# EAGLE library part 48074-9101 (library SamacSys_Parts)
Molex Female Cat5, Cat5e RJ45 Connector, Surface Mount, Shielded Source: Datasheet <https://www.molex.com/pdm_docs/sd/480749101_sd.pdf>
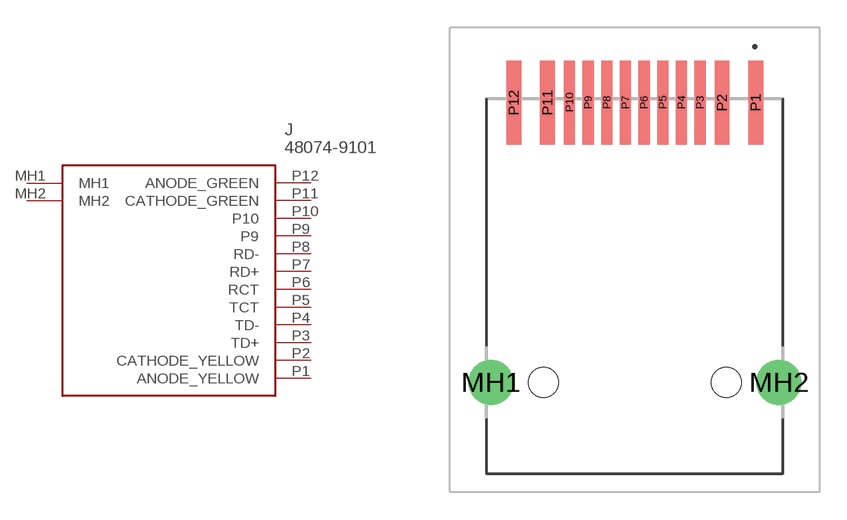
[diagram p11: symbol with the pads of 480749101; footprint 480749101]

Designator prefix J

## 48074-9101 (DESCRIPTION: Molex Female Cat5, Cat5e RJ45 Connector, Surface Mount, Shielded; HEIGHT: 14.36mm; MANUFACTURER_NAME: Molex; MANUFACTURER_PART_NUMBER: 48074-9101; MOUSER_PART_NUMBER: 538-48074-9101; MOUSER_PRICE-STOCK: https://www.mouser.co.uk/ProductDetail/Molex/48074-9101?qs=Y%252BBGkTaltXsyQToW0KDt0A%3D%3D)  [480749101]
MH1  MH1
MH2  MH2
P1  ANODE_YELLOW
P2  CATHODE_YELLOW
P3  TD+
P4  TD-
P5  TCT
P6  RCT
P7  RD+
P8  RD-
P9  P9
P10  P10
P11  CATHODE_GREEN
P12  ANODE_GREEN

## Footprint 480749101 (pad centres in mm)
48074-9101-3
drill 1.63 pad 2.445: MH1 -7.87,-5.25; MH2 7.87,-5.25
smd 0.81 x 4.6: P1 6.61,10.05; P2 4.77,10.05; P11 -4.77,10.05; P12 -6.61,10.05
smd 0.61 x 4.6: P3 3.57,10.05; P4 2.55,10.05; P5 1.53,10.05; P6 0.51,10.05; P7 -0.51,10.05; P8 -1.53,10.05; P9 -2.55,10.05; P10 -3.57,10.05
hole 1.63 at 5,-5.25
hole 1.63 at -5,-5.25